# Altium integrated library Cypress Memory Asynchronous FIFO.IntLib: 158 symbols (part 1 of 4)
Pins are listed as number, name and electrical type; pins without a type are passive.

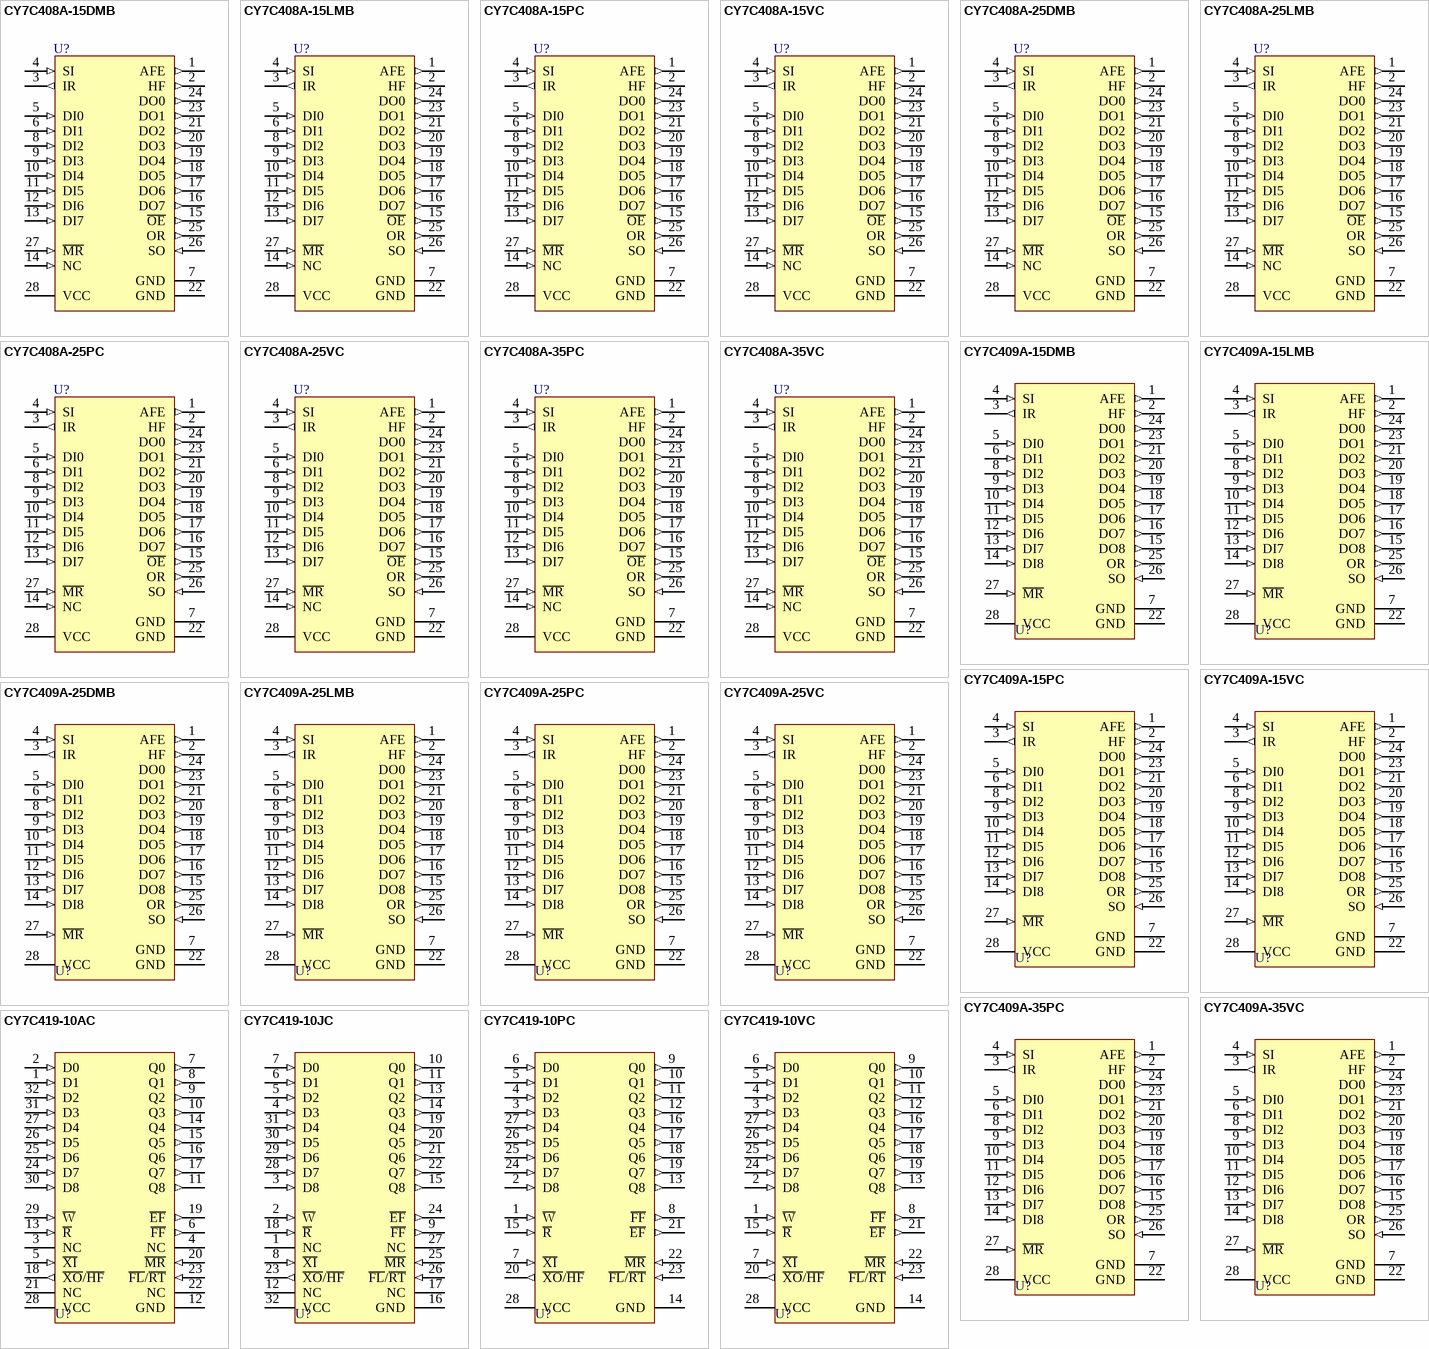
[diagram p0: symbols CY7C408A-15DMB to CY7C419-10VC]

## CY7C408A-15DMB
designator U?
64 x 8 Cascadable First-In First-Out; Published: 11-Dec-2002; LatestRevisionDate: 04-Mar-2005; LatestRevisionNote: Stylized 3D Model Added.; DatasheetVersion: Jul-1994; PackageVersion: Mar-1997; PackageReference: D22; Publisher: Altium Limited; PackageDescription: CerDIP; 28 Leads; Row Spacing 7.62 mm; Pitch 2.54 mm; ComponentLink1Description: Manufacturer Link; ComponentLink1URL: http://www.cypress.com/
footprint D22 (CerDIP; 28 Leads; Row Spacing 7.62 mm; Pitch 2.54 mm)
3D model D22 (CerDIP; 28 Leads; Row Spacing 7.62 mm; Pitch 2.54 mm)
pins: 1 AFE (out), 2 HF (out), 3 IR (out), 4 SI (in), 5 DI0 (in), 6 DI1 (in), 7 GND (power), 8 DI2 (in), 9 DI3 (in), 10 DI4 (in), 11 DI5 (in), 12 DI6 (in), 13 DI7 (in), 14 NC (in), 15 ~{OE} (out), 16 DO7 (out), 17 DO6 (out), 18 DO5 (out), 19 DO4 (out), 20 DO3 (out), 21 DO2 (out), 22 GND (power), 23 DO1 (out), 24 DO0 (out), 25 OR (out), 26 SO (in), 27 ~{MR} (in), 28 VCC (power)

## CY7C408A-15LMB
designator U?
64 x 8 Cascadable First-In First-Out; Published: 11-Dec-2002; DatasheetVersion: Jul-1994; PackageVersion: Apr-2001; PackageReference: L64; Publisher: Altium Limited; PackageDescription: Leadless Chip Carrier; 28 Terminals; Body 11.4 x 11.4 mm; ComponentLink1Description: Manufacturer Link; ComponentLink1URL: http://www.cypress.com/
footprint L64 (Leadless Chip Carrier; 28 Terminals; Body 11.4 x 11.4 mm)
pins: 1 AFE (out), 2 HF (out), 3 IR (out), 4 SI (in), 5 DI0 (in), 6 DI1 (in), 7 GND (power), 8 DI2 (in), 9 DI3 (in), 10 DI4 (in), 11 DI5 (in), 12 DI6 (in), 13 DI7 (in), 14 NC (in), 15 ~{OE} (out), 16 DO7 (out), 17 DO6 (out), 18 DO5 (out), 19 DO4 (out), 20 DO3 (out), 21 DO2 (out), 22 GND (power), 23 DO1 (out), 24 DO0 (out), 25 OR (out), 26 SO (in), 27 ~{MR} (in), 28 VCC (power)

## CY7C408A-15PC
designator U?
64 x 8 Cascadable First-In First-Out; Published: 11-Dec-2002; LatestRevisionDate: 04-Mar-2005; LatestRevisionNote: Stylized 3D Model Added.; DatasheetVersion: Jul-1994; PackageVersion: Jul-2000; PackageReference: P21; Publisher: Altium Limited; PackageDescription: DIP, Molded; 28 Leads; Row Spacing 7.62 mm; Pitch 2.54 mm; ComponentLink1Description: Manufacturer Link; ComponentLink1URL: http://www.cypress.com/
footprint P21 (DIP, Molded; 28 Leads; Row Spacing 7.62 mm; Pitch 2.54 mm)
3D model P21 (DIP, Molded; 28 Leads; Row Spacing 7.62 mm; Pitch 2.54 mm)
pins: 1 AFE (out), 2 HF (out), 3 IR (out), 4 SI (in), 5 DI0 (in), 6 DI1 (in), 7 GND (power), 8 DI2 (in), 9 DI3 (in), 10 DI4 (in), 11 DI5 (in), 12 DI6 (in), 13 DI7 (in), 14 NC (in), 15 ~{OE} (out), 16 DO7 (out), 17 DO6 (out), 18 DO5 (out), 19 DO4 (out), 20 DO3 (out), 21 DO2 (out), 22 GND (power), 23 DO1 (out), 24 DO0 (out), 25 OR (out), 26 SO (in), 27 ~{MR} (in), 28 VCC (power)

## CY7C408A-15VC
designator U?
64 x 8 Cascadable First-In First-Out; Published: 11-Dec-2002; LatestRevisionDate: 04-Mar-2005; LatestRevisionNote: Stylized 3D Model Added.; DatasheetVersion: Jul-1994; PackageVersion: Jul-1994; PackageReference: V21; Publisher: Altium Limited; PackageDescription: SOJ, Molded; 28 Leads; Body Width 7.5 mm; ComponentLink1Description: Manufacturer Link; ComponentLink1URL: http://www.cypress.com/
footprint V21 (SOJ, Molded; 28 Leads; Body Width 7.5 mm)
3D model V21 (SOJ, Molded; 28 Leads; Body Width 7.5 mm)
pins: 1 AFE (out), 2 HF (out), 3 IR (out), 4 SI (in), 5 DI0 (in), 6 DI1 (in), 7 GND (power), 8 DI2 (in), 9 DI3 (in), 10 DI4 (in), 11 DI5 (in), 12 DI6 (in), 13 DI7 (in), 14 NC (in), 15 ~{OE} (out), 16 DO7 (out), 17 DO6 (out), 18 DO5 (out), 19 DO4 (out), 20 DO3 (out), 21 DO2 (out), 22 GND (power), 23 DO1 (out), 24 DO0 (out), 25 OR (out), 26 SO (in), 27 ~{MR} (in), 28 VCC (power)

## CY7C408A-25DMB
designator U?
64 x 8 Cascadable First-In First-Out; Published: 11-Dec-2002; LatestRevisionDate: 04-Mar-2005; LatestRevisionNote: Stylized 3D Model Added.; DatasheetVersion: Jul-1994; PackageVersion: Mar-1997; PackageReference: D22; Publisher: Altium Limited; PackageDescription: CerDIP; 28 Leads; Row Spacing 7.62 mm; Pitch 2.54 mm; ComponentLink1Description: Manufacturer Link; ComponentLink1URL: http://www.cypress.com/
footprint D22 (CerDIP; 28 Leads; Row Spacing 7.62 mm; Pitch 2.54 mm)
3D model D22 (CerDIP; 28 Leads; Row Spacing 7.62 mm; Pitch 2.54 mm)
pins: 1 AFE (out), 2 HF (out), 3 IR (out), 4 SI (in), 5 DI0 (in), 6 DI1 (in), 7 GND (power), 8 DI2 (in), 9 DI3 (in), 10 DI4 (in), 11 DI5 (in), 12 DI6 (in), 13 DI7 (in), 14 NC (in), 15 ~{OE} (out), 16 DO7 (out), 17 DO6 (out), 18 DO5 (out), 19 DO4 (out), 20 DO3 (out), 21 DO2 (out), 22 GND (power), 23 DO1 (out), 24 DO0 (out), 25 OR (out), 26 SO (in), 27 ~{MR} (in), 28 VCC (power)

## CY7C408A-25LMB
designator U?
64 x 8 Cascadable First-In First-Out; Published: 11-Dec-2002; DatasheetVersion: Jul-1994; PackageVersion: Apr-2001; PackageReference: L64; Publisher: Altium Limited; PackageDescription: Leadless Chip Carrier; 28 Terminals; Body 11.4 x 11.4 mm; ComponentLink1Description: Manufacturer Link; ComponentLink1URL: http://www.cypress.com/
footprint L64 (Leadless Chip Carrier; 28 Terminals; Body 11.4 x 11.4 mm)
pins: 1 AFE (out), 2 HF (out), 3 IR (out), 4 SI (in), 5 DI0 (in), 6 DI1 (in), 7 GND (power), 8 DI2 (in), 9 DI3 (in), 10 DI4 (in), 11 DI5 (in), 12 DI6 (in), 13 DI7 (in), 14 NC (in), 15 ~{OE} (out), 16 DO7 (out), 17 DO6 (out), 18 DO5 (out), 19 DO4 (out), 20 DO3 (out), 21 DO2 (out), 22 GND (power), 23 DO1 (out), 24 DO0 (out), 25 OR (out), 26 SO (in), 27 ~{MR} (in), 28 VCC (power)

## CY7C408A-25PC
designator U?
64 x 8 Cascadable First-In First-Out; Published: 11-Dec-2002; LatestRevisionDate: 04-Mar-2005; LatestRevisionNote: Stylized 3D Model Added.; DatasheetVersion: Jul-1994; PackageVersion: Jul-2000; PackageReference: P21; Publisher: Altium Limited; PackageDescription: DIP, Molded; 28 Leads; Row Spacing 7.62 mm; Pitch 2.54 mm; ComponentLink1Description: Manufacturer Link; ComponentLink1URL: http://www.cypress.com/
footprint P21 (DIP, Molded; 28 Leads; Row Spacing 7.62 mm; Pitch 2.54 mm)
3D model P21 (DIP, Molded; 28 Leads; Row Spacing 7.62 mm; Pitch 2.54 mm)
pins: 1 AFE (out), 2 HF (out), 3 IR (out), 4 SI (in), 5 DI0 (in), 6 DI1 (in), 7 GND (power), 8 DI2 (in), 9 DI3 (in), 10 DI4 (in), 11 DI5 (in), 12 DI6 (in), 13 DI7 (in), 14 NC (in), 15 ~{OE} (out), 16 DO7 (out), 17 DO6 (out), 18 DO5 (out), 19 DO4 (out), 20 DO3 (out), 21 DO2 (out), 22 GND (power), 23 DO1 (out), 24 DO0 (out), 25 OR (out), 26 SO (in), 27 ~{MR} (in), 28 VCC (power)

## CY7C408A-25VC
designator U?
64 x 8 Cascadable First-In First-Out; Published: 11-Dec-2002; LatestRevisionDate: 04-Mar-2005; LatestRevisionNote: Stylized 3D Model Added.; DatasheetVersion: Jul-1994; PackageVersion: Jul-1994; PackageReference: V21; Publisher: Altium Limited; PackageDescription: SOJ, Molded; 28 Leads; Body Width 7.5 mm; ComponentLink1Description: Manufacturer Link; ComponentLink1URL: http://www.cypress.com/
footprint V21 (SOJ, Molded; 28 Leads; Body Width 7.5 mm)
3D model V21 (SOJ, Molded; 28 Leads; Body Width 7.5 mm)
pins: 1 AFE (out), 2 HF (out), 3 IR (out), 4 SI (in), 5 DI0 (in), 6 DI1 (in), 7 GND (power), 8 DI2 (in), 9 DI3 (in), 10 DI4 (in), 11 DI5 (in), 12 DI6 (in), 13 DI7 (in), 14 NC (in), 15 ~{OE} (out), 16 DO7 (out), 17 DO6 (out), 18 DO5 (out), 19 DO4 (out), 20 DO3 (out), 21 DO2 (out), 22 GND (power), 23 DO1 (out), 24 DO0 (out), 25 OR (out), 26 SO (in), 27 ~{MR} (in), 28 VCC (power)

## CY7C408A-35PC
designator U?
64 x 8 Cascadable First-In First-Out; Published: 11-Dec-2002; LatestRevisionDate: 04-Mar-2005; LatestRevisionNote: Stylized 3D Model Added.; DatasheetVersion: Jul-1994; PackageVersion: Jul-2000; PackageReference: P21; Publisher: Altium Limited; PackageDescription: DIP, Molded; 28 Leads; Row Spacing 7.62 mm; Pitch 2.54 mm; ComponentLink1Description: Manufacturer Link; ComponentLink1URL: http://www.cypress.com/
footprint P21 (DIP, Molded; 28 Leads; Row Spacing 7.62 mm; Pitch 2.54 mm)
3D model P21 (DIP, Molded; 28 Leads; Row Spacing 7.62 mm; Pitch 2.54 mm)
pins: 1 AFE (out), 2 HF (out), 3 IR (out), 4 SI (in), 5 DI0 (in), 6 DI1 (in), 7 GND (power), 8 DI2 (in), 9 DI3 (in), 10 DI4 (in), 11 DI5 (in), 12 DI6 (in), 13 DI7 (in), 14 NC (in), 15 ~{OE} (out), 16 DO7 (out), 17 DO6 (out), 18 DO5 (out), 19 DO4 (out), 20 DO3 (out), 21 DO2 (out), 22 GND (power), 23 DO1 (out), 24 DO0 (out), 25 OR (out), 26 SO (in), 27 ~{MR} (in), 28 VCC (power)

## CY7C408A-35VC
designator U?
64 x 8 Cascadable First-In First-Out; Published: 11-Dec-2002; LatestRevisionDate: 04-Mar-2005; LatestRevisionNote: Stylized 3D Model Added.; DatasheetVersion: Jul-1994; PackageVersion: Jul-1994; PackageReference: V21; Publisher: Altium Limited; PackageDescription: SOJ, Molded; 28 Leads; Body Width 7.5 mm; ComponentLink1Description: Manufacturer Link; ComponentLink1URL: http://www.cypress.com/
footprint V21 (SOJ, Molded; 28 Leads; Body Width 7.5 mm)
3D model V21 (SOJ, Molded; 28 Leads; Body Width 7.5 mm)
pins: 1 AFE (out), 2 HF (out), 3 IR (out), 4 SI (in), 5 DI0 (in), 6 DI1 (in), 7 GND (power), 8 DI2 (in), 9 DI3 (in), 10 DI4 (in), 11 DI5 (in), 12 DI6 (in), 13 DI7 (in), 14 NC (in), 15 ~{OE} (out), 16 DO7 (out), 17 DO6 (out), 18 DO5 (out), 19 DO4 (out), 20 DO3 (out), 21 DO2 (out), 22 GND (power), 23 DO1 (out), 24 DO0 (out), 25 OR (out), 26 SO (in), 27 ~{MR} (in), 28 VCC (power)

## CY7C409A-15DMB
designator U?
64 x 9 Cascadable First-In First-Out; Published: 11-Dec-2002; LatestRevisionDate: 04-Mar-2005; LatestRevisionNote: Stylized 3D Model Added.; DatasheetVersion: Jul-1994; PackageVersion: Mar-1997; PackageReference: D22; Publisher: Altium Limited; PackageDescription: CerDIP; 28 Leads; Row Spacing 7.62 mm; Pitch 2.54 mm; ComponentLink1Description: Manufacturer Link; ComponentLink1URL: http://www.cypress.com/
footprint D22 (CerDIP; 28 Leads; Row Spacing 7.62 mm; Pitch 2.54 mm)
3D model D22 (CerDIP; 28 Leads; Row Spacing 7.62 mm; Pitch 2.54 mm)
pins: 1 AFE (out), 2 HF (out), 3 IR (out), 4 SI (in), 5 DI0 (in), 6 DI1 (in), 7 GND (power), 8 DI2 (in), 9 DI3 (in), 10 DI4 (in), 11 DI5 (in), 12 DI6 (in), 13 DI7 (in), 14 DI8 (in), 15 DO8 (out), 16 DO7 (out), 17 DO6 (out), 18 DO5 (out), 19 DO4 (out), 20 DO3 (out), 21 DO2 (out), 22 GND (power), 23 DO1 (out), 24 DO0 (out), 25 OR (out), 26 SO (in), 27 ~{MR} (in), 28 VCC (power)

## CY7C409A-15LMB
designator U?
64 x 9 Cascadable First-In First-Out; Published: 11-Dec-2002; DatasheetVersion: Jul-1994; PackageVersion: Apr-2001; PackageReference: L64; Publisher: Altium Limited; PackageDescription: Leadless Chip Carrier; 28 Terminals; Body 11.4 x 11.4 mm; ComponentLink1Description: Manufacturer Link; ComponentLink1URL: http://www.cypress.com/
footprint L64 (Leadless Chip Carrier; 28 Terminals; Body 11.4 x 11.4 mm)
pins: 1 AFE (out), 2 HF (out), 3 IR (out), 4 SI (in), 5 DI0 (in), 6 DI1 (in), 7 GND (power), 8 DI2 (in), 9 DI3 (in), 10 DI4 (in), 11 DI5 (in), 12 DI6 (in), 13 DI7 (in), 14 DI8 (in), 15 DO8 (out), 16 DO7 (out), 17 DO6 (out), 18 DO5 (out), 19 DO4 (out), 20 DO3 (out), 21 DO2 (out), 22 GND (power), 23 DO1 (out), 24 DO0 (out), 25 OR (out), 26 SO (in), 27 ~{MR} (in), 28 VCC (power)

## CY7C409A-15PC
designator U?
64 x 9 Cascadable First-In First-Out; Published: 11-Dec-2002; LatestRevisionDate: 04-Mar-2005; LatestRevisionNote: Stylized 3D Model Added.; DatasheetVersion: Jul-1994; PackageVersion: Jul-2000; PackageReference: P21; Publisher: Altium Limited; PackageDescription: DIP, Molded; 28 Leads; Row Spacing 7.62 mm; Pitch 2.54 mm; ComponentLink1Description: Manufacturer Link; ComponentLink1URL: http://www.cypress.com/
footprint P21 (DIP, Molded; 28 Leads; Row Spacing 7.62 mm; Pitch 2.54 mm)
3D model P21 (DIP, Molded; 28 Leads; Row Spacing 7.62 mm; Pitch 2.54 mm)
pins: 1 AFE (out), 2 HF (out), 3 IR (out), 4 SI (in), 5 DI0 (in), 6 DI1 (in), 7 GND (power), 8 DI2 (in), 9 DI3 (in), 10 DI4 (in), 11 DI5 (in), 12 DI6 (in), 13 DI7 (in), 14 DI8 (in), 15 DO8 (out), 16 DO7 (out), 17 DO6 (out), 18 DO5 (out), 19 DO4 (out), 20 DO3 (out), 21 DO2 (out), 22 GND (power), 23 DO1 (out), 24 DO0 (out), 25 OR (out), 26 SO (in), 27 ~{MR} (in), 28 VCC (power)

## CY7C409A-15VC
designator U?
64 x 9 Cascadable First-In First-Out; Published: 11-Dec-2002; LatestRevisionDate: 04-Mar-2005; LatestRevisionNote: Stylized 3D Model Added.; DatasheetVersion: Jul-1994; PackageVersion: Jul-1994; PackageReference: V21; Publisher: Altium Limited; PackageDescription: SOJ, Molded; 28 Leads; Body Width 7.5 mm; ComponentLink1Description: Manufacturer Link; ComponentLink1URL: http://www.cypress.com/
footprint V21 (SOJ, Molded; 28 Leads; Body Width 7.5 mm)
3D model V21 (SOJ, Molded; 28 Leads; Body Width 7.5 mm)
pins: 1 AFE (out), 2 HF (out), 3 IR (out), 4 SI (in), 5 DI0 (in), 6 DI1 (in), 7 GND (power), 8 DI2 (in), 9 DI3 (in), 10 DI4 (in), 11 DI5 (in), 12 DI6 (in), 13 DI7 (in), 14 DI8 (in), 15 DO8 (out), 16 DO7 (out), 17 DO6 (out), 18 DO5 (out), 19 DO4 (out), 20 DO3 (out), 21 DO2 (out), 22 GND (power), 23 DO1 (out), 24 DO0 (out), 25 OR (out), 26 SO (in), 27 ~{MR} (in), 28 VCC (power)

## CY7C409A-25DMB
designator U?
64 x 9 Cascadable First-In First-Out; Published: 11-Dec-2002; LatestRevisionDate: 04-Mar-2005; LatestRevisionNote: Stylized 3D Model Added.; DatasheetVersion: Jul-1994; PackageVersion: Mar-1997; PackageReference: D22; Publisher: Altium Limited; PackageDescription: CerDIP; 28 Leads; Row Spacing 7.62 mm; Pitch 2.54 mm; ComponentLink1Description: Manufacturer Link; ComponentLink1URL: http://www.cypress.com/
footprint D22 (CerDIP; 28 Leads; Row Spacing 7.62 mm; Pitch 2.54 mm)
3D model D22 (CerDIP; 28 Leads; Row Spacing 7.62 mm; Pitch 2.54 mm)
pins: 1 AFE (out), 2 HF (out), 3 IR (out), 4 SI (in), 5 DI0 (in), 6 DI1 (in), 7 GND (power), 8 DI2 (in), 9 DI3 (in), 10 DI4 (in), 11 DI5 (in), 12 DI6 (in), 13 DI7 (in), 14 DI8 (in), 15 DO8 (out), 16 DO7 (out), 17 DO6 (out), 18 DO5 (out), 19 DO4 (out), 20 DO3 (out), 21 DO2 (out), 22 GND (power), 23 DO1 (out), 24 DO0 (out), 25 OR (out), 26 SO (in), 27 ~{MR} (in), 28 VCC (power)

## CY7C409A-25LMB
designator U?
64 x 9 Cascadable First-In First-Out; Published: 11-Dec-2002; DatasheetVersion: Jul-1994; PackageVersion: Apr-2001; PackageReference: L64; Publisher: Altium Limited; PackageDescription: Leadless Chip Carrier; 28 Terminals; Body 11.4 x 11.4 mm; ComponentLink1Description: Manufacturer Link; ComponentLink1URL: http://www.cypress.com/
footprint L64 (Leadless Chip Carrier; 28 Terminals; Body 11.4 x 11.4 mm)
pins: 1 AFE (out), 2 HF (out), 3 IR (out), 4 SI (in), 5 DI0 (in), 6 DI1 (in), 7 GND (power), 8 DI2 (in), 9 DI3 (in), 10 DI4 (in), 11 DI5 (in), 12 DI6 (in), 13 DI7 (in), 14 DI8 (in), 15 DO8 (out), 16 DO7 (out), 17 DO6 (out), 18 DO5 (out), 19 DO4 (out), 20 DO3 (out), 21 DO2 (out), 22 GND (power), 23 DO1 (out), 24 DO0 (out), 25 OR (out), 26 SO (in), 27 ~{MR} (in), 28 VCC (power)

## CY7C409A-25PC
designator U?
64 x 9 Cascadable First-In First-Out; Published: 11-Dec-2002; LatestRevisionDate: 04-Mar-2005; LatestRevisionNote: Stylized 3D Model Added.; DatasheetVersion: Jul-1994; PackageVersion: Jul-2000; PackageReference: P21; Publisher: Altium Limited; PackageDescription: DIP, Molded; 28 Leads; Row Spacing 7.62 mm; Pitch 2.54 mm; ComponentLink1Description: Manufacturer Link; ComponentLink1URL: http://www.cypress.com/
footprint P21 (DIP, Molded; 28 Leads; Row Spacing 7.62 mm; Pitch 2.54 mm)
3D model P21 (DIP, Molded; 28 Leads; Row Spacing 7.62 mm; Pitch 2.54 mm)
pins: 1 AFE (out), 2 HF (out), 3 IR (out), 4 SI (in), 5 DI0 (in), 6 DI1 (in), 7 GND (power), 8 DI2 (in), 9 DI3 (in), 10 DI4 (in), 11 DI5 (in), 12 DI6 (in), 13 DI7 (in), 14 DI8 (in), 15 DO8 (out), 16 DO7 (out), 17 DO6 (out), 18 DO5 (out), 19 DO4 (out), 20 DO3 (out), 21 DO2 (out), 22 GND (power), 23 DO1 (out), 24 DO0 (out), 25 OR (out), 26 SO (in), 27 ~{MR} (in), 28 VCC (power)

## CY7C409A-25VC
designator U?
64 x 9 Cascadable First-In First-Out; Published: 11-Dec-2002; LatestRevisionDate: 04-Mar-2005; LatestRevisionNote: Stylized 3D Model Added.; DatasheetVersion: Jul-1994; PackageVersion: Jul-1994; PackageReference: V21; Publisher: Altium Limited; PackageDescription: SOJ, Molded; 28 Leads; Body Width 7.5 mm; ComponentLink1Description: Manufacturer Link; ComponentLink1URL: http://www.cypress.com/
footprint V21 (SOJ, Molded; 28 Leads; Body Width 7.5 mm)
3D model V21 (SOJ, Molded; 28 Leads; Body Width 7.5 mm)
pins: 1 AFE (out), 2 HF (out), 3 IR (out), 4 SI (in), 5 DI0 (in), 6 DI1 (in), 7 GND (power), 8 DI2 (in), 9 DI3 (in), 10 DI4 (in), 11 DI5 (in), 12 DI6 (in), 13 DI7 (in), 14 DI8 (in), 15 DO8 (out), 16 DO7 (out), 17 DO6 (out), 18 DO5 (out), 19 DO4 (out), 20 DO3 (out), 21 DO2 (out), 22 GND (power), 23 DO1 (out), 24 DO0 (out), 25 OR (out), 26 SO (in), 27 ~{MR} (in), 28 VCC (power)

## CY7C409A-35PC
designator U?
64 x 9 Cascadable First-In First-Out; Published: 11-Dec-2002; LatestRevisionDate: 04-Mar-2005; LatestRevisionNote: Stylized 3D Model Added.; DatasheetVersion: Jul-1994; PackageVersion: Jul-2000; PackageReference: P21; Publisher: Altium Limited; PackageDescription: DIP, Molded; 28 Leads; Row Spacing 7.62 mm; Pitch 2.54 mm; ComponentLink1Description: Manufacturer Link; ComponentLink1URL: http://www.cypress.com/
footprint P21 (DIP, Molded; 28 Leads; Row Spacing 7.62 mm; Pitch 2.54 mm)
3D model P21 (DIP, Molded; 28 Leads; Row Spacing 7.62 mm; Pitch 2.54 mm)
pins: 1 AFE (out), 2 HF (out), 3 IR (out), 4 SI (in), 5 DI0 (in), 6 DI1 (in), 7 GND (power), 8 DI2 (in), 9 DI3 (in), 10 DI4 (in), 11 DI5 (in), 12 DI6 (in), 13 DI7 (in), 14 DI8 (in), 15 DO8 (out), 16 DO7 (out), 17 DO6 (out), 18 DO5 (out), 19 DO4 (out), 20 DO3 (out), 21 DO2 (out), 22 GND (power), 23 DO1 (out), 24 DO0 (out), 25 OR (out), 26 SO (in), 27 ~{MR} (in), 28 VCC (power)

## CY7C409A-35VC
designator U?
64 x 9 Cascadable First-In First-Out; Published: 11-Dec-2002; LatestRevisionDate: 04-Mar-2005; LatestRevisionNote: Stylized 3D Model Added.; DatasheetVersion: Jul-1994; PackageVersion: Jul-1994; PackageReference: V21; Publisher: Altium Limited; PackageDescription: SOJ, Molded; 28 Leads; Body Width 7.5 mm; ComponentLink1Description: Manufacturer Link; ComponentLink1URL: http://www.cypress.com/
footprint V21 (SOJ, Molded; 28 Leads; Body Width 7.5 mm)
3D model V21 (SOJ, Molded; 28 Leads; Body Width 7.5 mm)
pins: 1 AFE (out), 2 HF (out), 3 IR (out), 4 SI (in), 5 DI0 (in), 6 DI1 (in), 7 GND (power), 8 DI2 (in), 9 DI3 (in), 10 DI4 (in), 11 DI5 (in), 12 DI6 (in), 13 DI7 (in), 14 DI8 (in), 15 DO8 (out), 16 DO7 (out), 17 DO6 (out), 18 DO5 (out), 19 DO4 (out), 20 DO3 (out), 21 DO2 (out), 22 GND (power), 23 DO1 (out), 24 DO0 (out), 25 OR (out), 26 SO (in), 27 ~{MR} (in), 28 VCC (power)

## CY7C419-10AC
designator U?
256 x 9 Asynchronous First-In First-Out; Published: 11-Dec-2002; LatestRevisionDate: 13-Apr-2006; LatestRevisionNote: IPC-7351 Footprint Added.; DatasheetVersion: 4-Nov-1997; PackageVersion: Nov-1997; PackageReference: A32; Publisher: Altium Limited; PackageDescription: 32-Pin Thin Plastic Quad Flat Pack 0.8 mm Pitch; ComponentLink1Description: Manufacturer Link; ComponentLink1URL: http://www.cypress.com/; ComponentLink2Description: Datasheet; ComponentLink2URL: http://www.cypress.com/portal/server.pt/gateway/PTARGS_0_2_1524_209_259_43/http%3B/sjapp20.mis.cypress.com%3B7001/publishedcontent/publish/design_resources/datasheets/contents/cy7c419_5.pdf
footprint A32_N (Thin QFP, 32-Leads, Body 7x7mm, Pitch 0.8mm, IPC Medium Density)
footprint A32_L (Thin QFP, 32-Leads, Body 7x7mm, Pitch 0.8mm, IPC High Density)
footprint A32_M (Thin QFP, 32-Leads, Body 7x7mm, Pitch 0.8mm, IPC Low Density)
3D model CY7C419-A32 (32-Pin Thin Plastic Quad Flat Pack 0.8 mm Pitch)
pins: 1 D1 (in), 2 D0 (in), 3 NC, 4 NC, 5 ~{XI} (in), 6 ~{FF} (out), 7 Q0 (out), 8 Q1 (out), 9 Q2 (out), 10 Q3 (out), 11 Q8 (out), 12 GND (power), 13 ~{R} (in), 14 Q4 (out), 15 Q5 (out), 16 Q6 (out), 17 Q7 (out), 18 ~{XO}/~{HF} (out), 19 ~{EF} (out), 20 ~{MR} (in), 21 NC, 22 NC, 23 ~{FL}/~{RT} (in), 24 D7 (in), 25 D6 (in), 26 D5 (in), 27 D4 (in), 28 VCC (power), 29 ~{W} (in), 30 D8 (in), 31 D3 (in), 32 D2 (in)

## CY7C419-10JC
designator U?
256 x 9 Asynchronous First-In First-Out; Published: 11-Dec-2002; LatestRevisionDate: 04-Mar-2005; LatestRevisionNote: Stylized 3D Model Added.; DatasheetVersion: 4-Nov-1997; PackageVersion: Nov-1997; PackageReference: J65; Publisher: Altium Limited; PackageDescription: PLCC; 32 Leads; Body 11.4 x 14 mm; Pitch 1.27 mm; Code_JEDEC: MS-016-AE; Code_IPC: PLCC/R-32; ComponentLink1Description: Manufacturer Link; ComponentLink1URL: http://www.cypress.com/; ComponentLink2Description: Datasheet; ComponentLink2URL: http://www.cypress.com/portal/server.pt/gateway/PTARGS_0_2_1524_209_259_43/http%3B/sjapp20.mis.cypress.com%3B7001/publishedcontent/publish/design_resources/datasheets/contents/cy7c419_5.pdf
footprint J65 (PLCC; 32 Leads; Body 11.4 x 14 mm; Pitch 1.27 mm)
3D model CY7C419-J65 (PLCC; 32 Leads; Body 11.4 x 14 mm; Pitch 1.27 mm)
pins: 1 NC, 2 ~{W} (in), 3 D8 (in), 4 D3 (in), 5 D2 (in), 6 D1 (in), 7 D0 (in), 8 ~{XI} (in), 9 ~{FF} (out), 10 Q0 (out), 11 Q1 (out), 12 NC, 13 Q2 (out), 14 Q3 (out), 15 Q8 (out), 16 GND (power), 17 NC, 18 ~{R} (in), 19 Q4 (out), 20 Q5 (out), 21 Q6 (out), 22 Q7 (out), 23 ~{XO}/~{HF} (out), 24 ~{EF} (out), 25 ~{MR} (in), 26 ~{FL}/~{RT} (in), 27 NC, 28 D7 (in), 29 D6 (in), 30 D5 (in), 31 D4 (in), 32 VCC (power)

## CY7C419-10PC
designator U?
256 x 9 Asynchronous First-In First-Out; Published: 11-Dec-2002; LatestRevisionDate: 04-Mar-2005; LatestRevisionNote: Stylized 3D Model Added.; DatasheetVersion: 4-Nov-1997; PackageVersion: Jul-2000; PackageReference: P21; Publisher: Altium Limited; PackageDescription: DIP, Molded; 28 Leads; Row Spacing 7.62 mm; Pitch 2.54 mm; ComponentLink1Description: Manufacturer Link; ComponentLink1URL: http://www.cypress.com/; ComponentLink2Description: Datasheet; ComponentLink2URL: http://www.cypress.com/portal/server.pt/gateway/PTARGS_0_2_1524_209_259_43/http%3B/sjapp20.mis.cypress.com%3B7001/publishedcontent/publish/design_resources/datasheets/contents/cy7c419_5.pdf
footprint P21 (DIP, Molded; 28 Leads; Row Spacing 7.62 mm; Pitch 2.54 mm)
3D model P21 (DIP, Molded; 28 Leads; Row Spacing 7.62 mm; Pitch 2.54 mm)
pins: 1 ~{W} (in), 2 D8 (in), 3 D3 (in), 4 D2 (in), 5 D1 (in), 6 D0 (in), 7 ~{XI} (in), 8 ~{FF} (out), 9 Q0 (out), 10 Q1 (out), 11 Q2 (out), 12 Q3 (out), 13 Q8 (out), 14 GND (power), 15 ~{R} (in), 16 Q4 (out), 17 Q5 (out), 18 Q6 (out), 19 Q7 (out), 20 ~{XO}/~{HF} (out), 21 ~{EF} (out), 22 ~{MR} (in), 23 ~{FL}/~{RT} (in), 24 D7 (in), 25 D6 (in), 26 D5 (in), 27 D4 (in), 28 VCC (power)

## CY7C419-10VC
designator U?
256 x 9 Asynchronous First-In First-Out; Published: 11-Dec-2002; LatestRevisionDate: 04-Mar-2005; LatestRevisionNote: Stylized 3D Model Added.; DatasheetVersion: 4-Nov-1997; PackageVersion: Jul-1994; PackageReference: V21; Publisher: Altium Limited; PackageDescription: SOJ, Molded; 28 Leads; Body Width 7.5 mm; ComponentLink1Description: Manufacturer Link; ComponentLink1URL: http://www.cypress.com/; ComponentLink2Description: Datasheet; ComponentLink2URL: http://www.cypress.com/portal/server.pt/gateway/PTARGS_0_2_1524_209_259_43/http%3B/sjapp20.mis.cypress.com%3B7001/publishedcontent/publish/design_resources/datasheets/contents/cy7c419_5.pdf
footprint V21 (SOJ, Molded; 28 Leads; Body Width 7.5 mm)
3D model V21 (SOJ, Molded; 28 Leads; Body Width 7.5 mm)
pins: 1 ~{W} (in), 2 D8 (in), 3 D3 (in), 4 D2 (in), 5 D1 (in), 6 D0 (in), 7 ~{XI} (in), 8 ~{FF} (out), 9 Q0 (out), 10 Q1 (out), 11 Q2 (out), 12 Q3 (out), 13 Q8 (out), 14 GND (power), 15 ~{R} (in), 16 Q4 (out), 17 Q5 (out), 18 Q6 (out), 19 Q7 (out), 20 ~{XO}/~{HF} (out), 21 ~{EF} (out), 22 ~{MR} (in), 23 ~{FL}/~{RT} (in), 24 D7 (in), 25 D6 (in), 26 D5 (in), 27 D4 (in), 28 VCC (power)

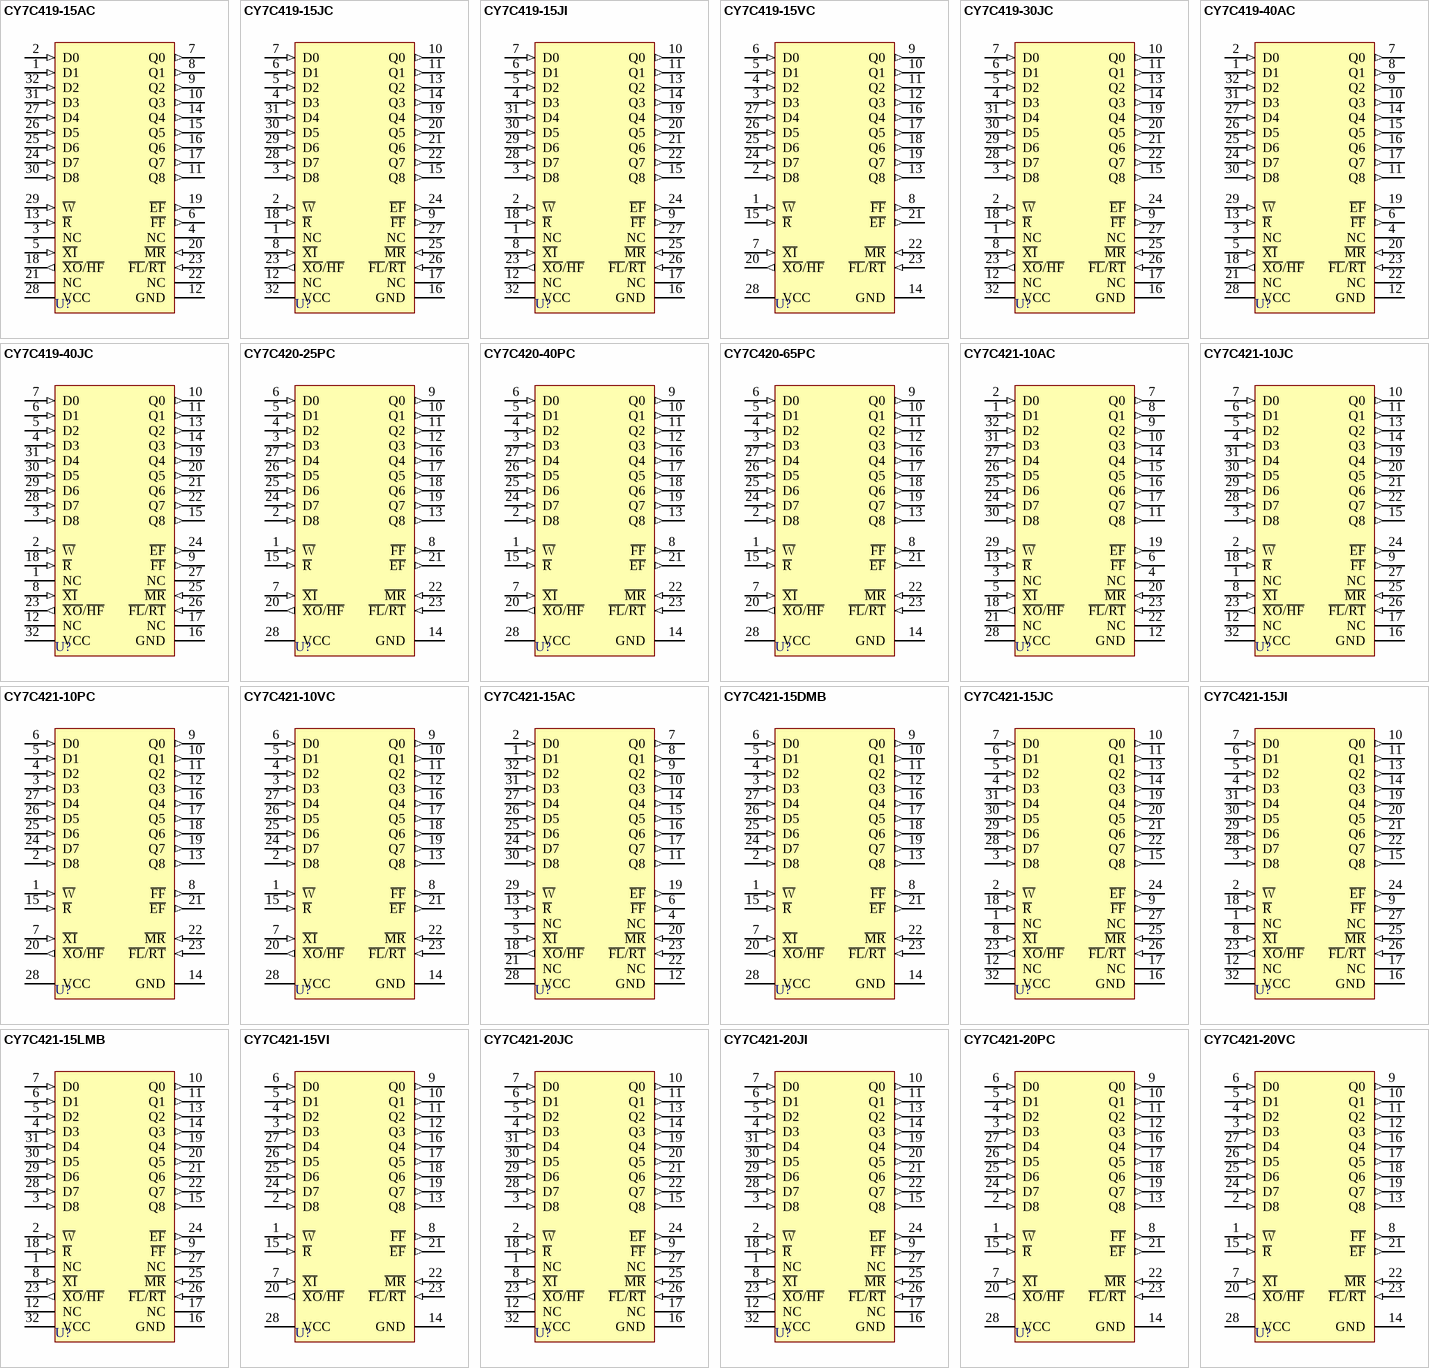
[diagram p1: symbols CY7C419-15AC to CY7C421-20VC]

## CY7C419-15AC
designator U?
256 x 9 Asynchronous First-In First-Out; Published: 11-Dec-2002; LatestRevisionDate: 13-Apr-2006; LatestRevisionNote: IPC-7351 Footprint Added.; DatasheetVersion: 4-Nov-1997; PackageVersion: Nov-1997; PackageReference: A32; Publisher: Altium Limited; PackageDescription: 32-Pin Thin Plastic Quad Flat Pack 0.8 mm Pitch; ComponentLink1Description: Manufacturer Link; ComponentLink1URL: http://www.cypress.com/; ComponentLink2Description: Datasheet; ComponentLink2URL: http://www.cypress.com/portal/server.pt/gateway/PTARGS_0_2_1524_209_259_43/http%3B/sjapp20.mis.cypress.com%3B7001/publishedcontent/publish/design_resources/datasheets/contents/cy7c419_5.pdf
footprint A32_N (Thin QFP, 32-Leads, Body 7x7mm, Pitch 0.8mm, IPC Medium Density)
footprint A32_L (Thin QFP, 32-Leads, Body 7x7mm, Pitch 0.8mm, IPC High Density)
footprint A32_M (Thin QFP, 32-Leads, Body 7x7mm, Pitch 0.8mm, IPC Low Density)
3D model CY7C419-A32 (32-Pin Thin Plastic Quad Flat Pack 0.8 mm Pitch)
pins: 1 D1 (in), 2 D0 (in), 3 NC, 4 NC, 5 ~{XI} (in), 6 ~{FF} (out), 7 Q0 (out), 8 Q1 (out), 9 Q2 (out), 10 Q3 (out), 11 Q8 (out), 12 GND (power), 13 ~{R} (in), 14 Q4 (out), 15 Q5 (out), 16 Q6 (out), 17 Q7 (out), 18 ~{XO}/~{HF} (out), 19 ~{EF} (out), 20 ~{MR} (in), 21 NC, 22 NC, 23 ~{FL}/~{RT} (in), 24 D7 (in), 25 D6 (in), 26 D5 (in), 27 D4 (in), 28 VCC (power), 29 ~{W} (in), 30 D8 (in), 31 D3 (in), 32 D2 (in)

## CY7C419-15JC
designator U?
256 x 9 Asynchronous First-In First-Out; Published: 11-Dec-2002; LatestRevisionDate: 04-Mar-2005; LatestRevisionNote: Stylized 3D Model Added.; DatasheetVersion: 4-Nov-1997; PackageVersion: Nov-1997; PackageReference: J65; Publisher: Altium Limited; PackageDescription: PLCC; 32 Leads; Body 11.4 x 14 mm; Pitch 1.27 mm; Code_JEDEC: MS-016-AE; Code_IPC: PLCC/R-32; ComponentLink1Description: Manufacturer Link; ComponentLink1URL: http://www.cypress.com/; ComponentLink2Description: Datasheet; ComponentLink2URL: http://www.cypress.com/portal/server.pt/gateway/PTARGS_0_2_1524_209_259_43/http%3B/sjapp20.mis.cypress.com%3B7001/publishedcontent/publish/design_resources/datasheets/contents/cy7c419_5.pdf
footprint J65 (PLCC; 32 Leads; Body 11.4 x 14 mm; Pitch 1.27 mm)
3D model CY7C419-J65 (PLCC; 32 Leads; Body 11.4 x 14 mm; Pitch 1.27 mm)
pins: 1 NC, 2 ~{W} (in), 3 D8 (in), 4 D3 (in), 5 D2 (in), 6 D1 (in), 7 D0 (in), 8 ~{XI} (in), 9 ~{FF} (out), 10 Q0 (out), 11 Q1 (out), 12 NC, 13 Q2 (out), 14 Q3 (out), 15 Q8 (out), 16 GND (power), 17 NC, 18 ~{R} (in), 19 Q4 (out), 20 Q5 (out), 21 Q6 (out), 22 Q7 (out), 23 ~{XO}/~{HF} (out), 24 ~{EF} (out), 25 ~{MR} (in), 26 ~{FL}/~{RT} (in), 27 NC, 28 D7 (in), 29 D6 (in), 30 D5 (in), 31 D4 (in), 32 VCC (power)

## CY7C419-15JI
designator U?
256 x 9 Asynchronous First-In First-Out; Published: 11-Dec-2002; LatestRevisionDate: 04-Mar-2005; LatestRevisionNote: Stylized 3D Model Added.; DatasheetVersion: 4-Nov-1997; PackageVersion: Nov-1997; PackageReference: J65; Publisher: Altium Limited; PackageDescription: PLCC; 32 Leads; Body 11.4 x 14 mm; Pitch 1.27 mm; Code_JEDEC: MS-016-AE; Code_IPC: PLCC/R-32; ComponentLink1Description: Manufacturer Link; ComponentLink1URL: http://www.cypress.com/; ComponentLink2Description: Datasheet; ComponentLink2URL: http://www.cypress.com/portal/server.pt/gateway/PTARGS_0_2_1524_209_259_43/http%3B/sjapp20.mis.cypress.com%3B7001/publishedcontent/publish/design_resources/datasheets/contents/cy7c419_5.pdf
footprint J65 (PLCC; 32 Leads; Body 11.4 x 14 mm; Pitch 1.27 mm)
3D model CY7C419-J65 (PLCC; 32 Leads; Body 11.4 x 14 mm; Pitch 1.27 mm)
pins: 1 NC, 2 ~{W} (in), 3 D8 (in), 4 D3 (in), 5 D2 (in), 6 D1 (in), 7 D0 (in), 8 ~{XI} (in), 9 ~{FF} (out), 10 Q0 (out), 11 Q1 (out), 12 NC, 13 Q2 (out), 14 Q3 (out), 15 Q8 (out), 16 GND (power), 17 NC, 18 ~{R} (in), 19 Q4 (out), 20 Q5 (out), 21 Q6 (out), 22 Q7 (out), 23 ~{XO}/~{HF} (out), 24 ~{EF} (out), 25 ~{MR} (in), 26 ~{FL}/~{RT} (in), 27 NC, 28 D7 (in), 29 D6 (in), 30 D5 (in), 31 D4 (in), 32 VCC (power)

## CY7C419-15VC
designator U?
256 x 9 Asynchronous First-In First-Out; Published: 11-Dec-2002; LatestRevisionDate: 04-Mar-2005; LatestRevisionNote: Stylized 3D Model Added.; DatasheetVersion: 4-Nov-1997; PackageVersion: Jul-1994; PackageReference: V21; Publisher: Altium Limited; PackageDescription: SOJ, Molded; 28 Leads; Body Width 7.5 mm; ComponentLink1Description: Manufacturer Link; ComponentLink1URL: http://www.cypress.com/; ComponentLink2Description: Datasheet; ComponentLink2URL: http://www.cypress.com/portal/server.pt/gateway/PTARGS_0_2_1524_209_259_43/http%3B/sjapp20.mis.cypress.com%3B7001/publishedcontent/publish/design_resources/datasheets/contents/cy7c419_5.pdf
footprint V21 (SOJ, Molded; 28 Leads; Body Width 7.5 mm)
3D model V21 (SOJ, Molded; 28 Leads; Body Width 7.5 mm)
pins: 1 ~{W} (in), 2 D8 (in), 3 D3 (in), 4 D2 (in), 5 D1 (in), 6 D0 (in), 7 ~{XI} (in), 8 ~{FF} (out), 9 Q0 (out), 10 Q1 (out), 11 Q2 (out), 12 Q3 (out), 13 Q8 (out), 14 GND (power), 15 ~{R} (in), 16 Q4 (out), 17 Q5 (out), 18 Q6 (out), 19 Q7 (out), 20 ~{XO}/~{HF} (out), 21 ~{EF} (out), 22 ~{MR} (in), 23 ~{FL}/~{RT} (in), 24 D7 (in), 25 D6 (in), 26 D5 (in), 27 D4 (in), 28 VCC (power)

## CY7C419-30JC
designator U?
256 x 9 Asynchronous First-In First-Out; Published: 11-Dec-2002; LatestRevisionDate: 04-Mar-2005; LatestRevisionNote: Stylized 3D Model Added.; DatasheetVersion: 4-Nov-1997; PackageVersion: Nov-1997; PackageReference: J65; Publisher: Altium Limited; PackageDescription: PLCC; 32 Leads; Body 11.4 x 14 mm; Pitch 1.27 mm; Code_JEDEC: MS-016-AE; Code_IPC: PLCC/R-32; ComponentLink1Description: Manufacturer Link; ComponentLink1URL: http://www.cypress.com/; ComponentLink2Description: Datasheet; ComponentLink2URL: http://www.cypress.com/portal/server.pt/gateway/PTARGS_0_2_1524_209_259_43/http%3B/sjapp20.mis.cypress.com%3B7001/publishedcontent/publish/design_resources/datasheets/contents/cy7c419_5.pdf
footprint J65 (PLCC; 32 Leads; Body 11.4 x 14 mm; Pitch 1.27 mm)
3D model CY7C419-J65 (PLCC; 32 Leads; Body 11.4 x 14 mm; Pitch 1.27 mm)
pins: 1 NC, 2 ~{W} (in), 3 D8 (in), 4 D3 (in), 5 D2 (in), 6 D1 (in), 7 D0 (in), 8 ~{XI} (in), 9 ~{FF} (out), 10 Q0 (out), 11 Q1 (out), 12 NC, 13 Q2 (out), 14 Q3 (out), 15 Q8 (out), 16 GND (power), 17 NC, 18 ~{R} (in), 19 Q4 (out), 20 Q5 (out), 21 Q6 (out), 22 Q7 (out), 23 ~{XO}/~{HF} (out), 24 ~{EF} (out), 25 ~{MR} (in), 26 ~{FL}/~{RT} (in), 27 NC, 28 D7 (in), 29 D6 (in), 30 D5 (in), 31 D4 (in), 32 VCC (power)

## CY7C419-40AC
designator U?
256 x 9 Asynchronous First-In First-Out; Published: 11-Dec-2002; LatestRevisionDate: 13-Apr-2006; LatestRevisionNote: IPC-7351 Footprint Added.; DatasheetVersion: 4-Nov-1997; PackageVersion: Nov-1997; PackageReference: A32; Publisher: Altium Limited; PackageDescription: 32-Pin Thin Plastic Quad Flat Pack 0.8 mm Pitch; ComponentLink1Description: Manufacturer Link; ComponentLink1URL: http://www.cypress.com/; ComponentLink2Description: Datasheet; ComponentLink2URL: http://www.cypress.com/portal/server.pt/gateway/PTARGS_0_2_1524_209_259_43/http%3B/sjapp20.mis.cypress.com%3B7001/publishedcontent/publish/design_resources/datasheets/contents/cy7c419_5.pdf
footprint A32_N (Thin QFP, 32-Leads, Body 7x7mm, Pitch 0.8mm, IPC Medium Density)
footprint A32_L (Thin QFP, 32-Leads, Body 7x7mm, Pitch 0.8mm, IPC High Density)
footprint A32_M (Thin QFP, 32-Leads, Body 7x7mm, Pitch 0.8mm, IPC Low Density)
3D model CY7C419-A32 (32-Pin Thin Plastic Quad Flat Pack 0.8 mm Pitch)
pins: 1 D1 (in), 2 D0 (in), 3 NC, 4 NC, 5 ~{XI} (in), 6 ~{FF} (out), 7 Q0 (out), 8 Q1 (out), 9 Q2 (out), 10 Q3 (out), 11 Q8 (out), 12 GND (power), 13 ~{R} (in), 14 Q4 (out), 15 Q5 (out), 16 Q6 (out), 17 Q7 (out), 18 ~{XO}/~{HF} (out), 19 ~{EF} (out), 20 ~{MR} (in), 21 NC, 22 NC, 23 ~{FL}/~{RT} (in), 24 D7 (in), 25 D6 (in), 26 D5 (in), 27 D4 (in), 28 VCC (power), 29 ~{W} (in), 30 D8 (in), 31 D3 (in), 32 D2 (in)

## CY7C419-40JC
designator U?
256 x 9 Asynchronous First-In First-Out; Published: 11-Dec-2002; LatestRevisionDate: 04-Mar-2005; LatestRevisionNote: Stylized 3D Model Added.; DatasheetVersion: 4-Nov-1997; PackageVersion: Nov-1997; PackageReference: J65; Publisher: Altium Limited; PackageDescription: PLCC; 32 Leads; Body 11.4 x 14 mm; Pitch 1.27 mm; Code_JEDEC: MS-016-AE; Code_IPC: PLCC/R-32; ComponentLink1Description: Manufacturer Link; ComponentLink1URL: http://www.cypress.com/; ComponentLink2Description: Datasheet; ComponentLink2URL: http://www.cypress.com/portal/server.pt/gateway/PTARGS_0_2_1524_209_259_43/http%3B/sjapp20.mis.cypress.com%3B7001/publishedcontent/publish/design_resources/datasheets/contents/cy7c419_5.pdf
footprint J65 (PLCC; 32 Leads; Body 11.4 x 14 mm; Pitch 1.27 mm)
3D model CY7C419-J65 (PLCC; 32 Leads; Body 11.4 x 14 mm; Pitch 1.27 mm)
pins: 1 NC, 2 ~{W} (in), 3 D8 (in), 4 D3 (in), 5 D2 (in), 6 D1 (in), 7 D0 (in), 8 ~{XI} (in), 9 ~{FF} (out), 10 Q0 (out), 11 Q1 (out), 12 NC, 13 Q2 (out), 14 Q3 (out), 15 Q8 (out), 16 GND (power), 17 NC, 18 ~{R} (in), 19 Q4 (out), 20 Q5 (out), 21 Q6 (out), 22 Q7 (out), 23 ~{XO}/~{HF} (out), 24 ~{EF} (out), 25 ~{MR} (in), 26 ~{FL}/~{RT} (in), 27 NC, 28 D7 (in), 29 D6 (in), 30 D5 (in), 31 D4 (in), 32 VCC (power)

## CY7C420-25PC
designator U?
512 x 9 Asynchronous First-In First-Out; Published: 11-Dec-2002; LatestRevisionDate: 04-Mar-2005; LatestRevisionNote: Stylized 3D Model Added.; DatasheetVersion: 4-Nov-1997; PackageVersion: Nov-1997; PackageReference: P15; Publisher: Altium Limited; PackageDescription: DIP, Molded; 28 Leads; Row Spacing 15.24 mm; Pitch 2.54 mm; ComponentLink1Description: Manufacturer Link; ComponentLink1URL: http://www.cypress.com/; ComponentLink2Description: Datasheet; ComponentLink2URL: http://www.cypress.com/portal/server.pt/gateway/PTARGS_0_2_1524_209_259_43/http%3B/sjapp20.mis.cypress.com%3B7001/publishedcontent/publish/design_resources/datasheets/contents/cy7c419_5.pdf
footprint P15 (DIP, Molded; 28 Leads; Row Spacing 15.24 mm; Pitch 2.54 mm)
3D model P15 (DIP, Molded; 28 Leads; Row Spacing 15.24 mm; Pitch 2.54 mm)
pins: 1 ~{W} (in), 2 D8 (in), 3 D3 (in), 4 D2 (in), 5 D1 (in), 6 D0 (in), 7 ~{XI} (in), 8 ~{FF} (out), 9 Q0 (out), 10 Q1 (out), 11 Q2 (out), 12 Q3 (out), 13 Q8 (out), 14 GND (power), 15 ~{R} (in), 16 Q4 (out), 17 Q5 (out), 18 Q6 (out), 19 Q7 (out), 20 ~{XO}/~{HF} (out), 21 ~{EF} (out), 22 ~{MR} (in), 23 ~{FL}/~{RT} (in), 24 D7 (in), 25 D6 (in), 26 D5 (in), 27 D4 (in), 28 VCC (power)

## CY7C420-40PC
designator U?
512 x 9 Asynchronous First-In First-Out; Published: 11-Dec-2002; LatestRevisionDate: 04-Mar-2005; LatestRevisionNote: Stylized 3D Model Added.; DatasheetVersion: 4-Nov-1997; PackageVersion: Nov-1997; PackageReference: P15; Publisher: Altium Limited; PackageDescription: DIP, Molded; 28 Leads; Row Spacing 15.24 mm; Pitch 2.54 mm; ComponentLink1Description: Manufacturer Link; ComponentLink1URL: http://www.cypress.com/; ComponentLink2Description: Datasheet; ComponentLink2URL: http://www.cypress.com/portal/server.pt/gateway/PTARGS_0_2_1524_209_259_43/http%3B/sjapp20.mis.cypress.com%3B7001/publishedcontent/publish/design_resources/datasheets/contents/cy7c419_5.pdf
footprint P15 (DIP, Molded; 28 Leads; Row Spacing 15.24 mm; Pitch 2.54 mm)
3D model P15 (DIP, Molded; 28 Leads; Row Spacing 15.24 mm; Pitch 2.54 mm)
pins: 1 ~{W} (in), 2 D8 (in), 3 D3 (in), 4 D2 (in), 5 D1 (in), 6 D0 (in), 7 ~{XI} (in), 8 ~{FF} (out), 9 Q0 (out), 10 Q1 (out), 11 Q2 (out), 12 Q3 (out), 13 Q8 (out), 14 GND (power), 15 ~{R} (in), 16 Q4 (out), 17 Q5 (out), 18 Q6 (out), 19 Q7 (out), 20 ~{XO}/~{HF} (out), 21 ~{EF} (out), 22 ~{MR} (in), 23 ~{FL}/~{RT} (in), 24 D7 (in), 25 D6 (in), 26 D5 (in), 27 D4 (in), 28 VCC (power)

## CY7C420-65PC
designator U?
512 x 9 Asynchronous First-In First-Out; Published: 11-Dec-2002; LatestRevisionDate: 04-Mar-2005; LatestRevisionNote: Stylized 3D Model Added.; DatasheetVersion: 4-Nov-1997; PackageVersion: Nov-1997; PackageReference: P15; Publisher: Altium Limited; PackageDescription: DIP, Molded; 28 Leads; Row Spacing 15.24 mm; Pitch 2.54 mm; ComponentLink1Description: Manufacturer Link; ComponentLink1URL: http://www.cypress.com/; ComponentLink2Description: Datasheet; ComponentLink2URL: http://www.cypress.com/portal/server.pt/gateway/PTARGS_0_2_1524_209_259_43/http%3B/sjapp20.mis.cypress.com%3B7001/publishedcontent/publish/design_resources/datasheets/contents/cy7c419_5.pdf
footprint P15 (DIP, Molded; 28 Leads; Row Spacing 15.24 mm; Pitch 2.54 mm)
3D model P15 (DIP, Molded; 28 Leads; Row Spacing 15.24 mm; Pitch 2.54 mm)
pins: 1 ~{W} (in), 2 D8 (in), 3 D3 (in), 4 D2 (in), 5 D1 (in), 6 D0 (in), 7 ~{XI} (in), 8 ~{FF} (out), 9 Q0 (out), 10 Q1 (out), 11 Q2 (out), 12 Q3 (out), 13 Q8 (out), 14 GND (power), 15 ~{R} (in), 16 Q4 (out), 17 Q5 (out), 18 Q6 (out), 19 Q7 (out), 20 ~{XO}/~{HF} (out), 21 ~{EF} (out), 22 ~{MR} (in), 23 ~{FL}/~{RT} (in), 24 D7 (in), 25 D6 (in), 26 D5 (in), 27 D4 (in), 28 VCC (power)

## CY7C421-10AC
designator U?
512 x 9 Asynchronous First-In First-Out; Published: 11-Dec-2002; LatestRevisionDate: 13-Apr-2006; LatestRevisionNote: IPC-7351 Footprint Added.; DatasheetVersion: 4-Nov-1997; PackageVersion: Nov-1997; PackageReference: A32; Publisher: Altium Limited; PackageDescription: 32-Pin Thin Plastic Quad Flat Pack 0.8 mm Pitch; ComponentLink1Description: Manufacturer Link; ComponentLink1URL: http://www.cypress.com/; ComponentLink2Description: Datasheet; ComponentLink2URL: http://www.cypress.com/portal/server.pt/gateway/PTARGS_0_2_1524_209_259_43/http%3B/sjapp20.mis.cypress.com%3B7001/publishedcontent/publish/design_resources/datasheets/contents/cy7c419_5.pdf
footprint A32_N (Thin QFP, 32-Leads, Body 7x7mm, Pitch 0.8mm, IPC Medium Density)
footprint A32_L (Thin QFP, 32-Leads, Body 7x7mm, Pitch 0.8mm, IPC High Density)
footprint A32_M (Thin QFP, 32-Leads, Body 7x7mm, Pitch 0.8mm, IPC Low Density)
3D model CY7C421-A32 (32-Pin Thin Plastic Quad Flat Pack 0.8 mm Pitch)
pins: 1 D1 (in), 2 D0 (in), 3 NC, 4 NC, 5 ~{XI} (in), 6 ~{FF} (out), 7 Q0 (out), 8 Q1 (out), 9 Q2 (out), 10 Q3 (out), 11 Q8 (out), 12 GND (power), 13 ~{R} (in), 14 Q4 (out), 15 Q5 (out), 16 Q6 (out), 17 Q7 (out), 18 ~{XO}/~{HF} (out), 19 ~{EF} (out), 20 ~{MR} (in), 21 NC, 22 NC, 23 ~{FL}/~{RT} (in), 24 D7 (in), 25 D6 (in), 26 D5 (in), 27 D4 (in), 28 VCC (power), 29 ~{W} (in), 30 D8 (in), 31 D3 (in), 32 D2 (in)

## CY7C421-10JC
designator U?
512 x 9 Asynchronous First-In First-Out; Published: 11-Dec-2002; LatestRevisionDate: 04-Mar-2005; LatestRevisionNote: Stylized 3D Model Added.; DatasheetVersion: 4-Nov-1997; PackageVersion: Nov-1997; PackageReference: J65; Publisher: Altium Limited; PackageDescription: PLCC; 32 Leads; Body 11.4 x 14 mm; Pitch 1.27 mm; Code_JEDEC: MS-016-AE; Code_IPC: PLCC/R-32; ComponentLink1Description: Manufacturer Link; ComponentLink1URL: http://www.cypress.com/; ComponentLink2Description: Datasheet; ComponentLink2URL: http://www.cypress.com/portal/server.pt/gateway/PTARGS_0_2_1524_209_259_43/http%3B/sjapp20.mis.cypress.com%3B7001/publishedcontent/publish/design_resources/datasheets/contents/cy7c419_5.pdf
footprint J65 (PLCC; 32 Leads; Body 11.4 x 14 mm; Pitch 1.27 mm)
3D model CY7C421-J65 (PLCC; 32 Leads; Body 11.4 x 14 mm; Pitch 1.27 mm)
pins: 1 NC, 2 ~{W} (in), 3 D8 (in), 4 D3 (in), 5 D2 (in), 6 D1 (in), 7 D0 (in), 8 ~{XI} (in), 9 ~{FF} (out), 10 Q0 (out), 11 Q1 (out), 12 NC, 13 Q2 (out), 14 Q3 (out), 15 Q8 (out), 16 GND (power), 17 NC, 18 ~{R} (in), 19 Q4 (out), 20 Q5 (out), 21 Q6 (out), 22 Q7 (out), 23 ~{XO}/~{HF} (out), 24 ~{EF} (out), 25 ~{MR} (in), 26 ~{FL}/~{RT} (in), 27 NC, 28 D7 (in), 29 D6 (in), 30 D5 (in), 31 D4 (in), 32 VCC (power)

## CY7C421-10PC
designator U?
512 x 9 Asynchronous First-In First-Out; Published: 11-Dec-2002; LatestRevisionDate: 04-Mar-2005; LatestRevisionNote: Stylized 3D Model Added.; DatasheetVersion: 4-Nov-1997; PackageVersion: Jul-2000; PackageReference: P21; Publisher: Altium Limited; PackageDescription: DIP, Molded; 28 Leads; Row Spacing 7.62 mm; Pitch 2.54 mm; ComponentLink1Description: Manufacturer Link; ComponentLink1URL: http://www.cypress.com/; ComponentLink2Description: Datasheet; ComponentLink2URL: http://www.cypress.com/portal/server.pt/gateway/PTARGS_0_2_1524_209_259_43/http%3B/sjapp20.mis.cypress.com%3B7001/publishedcontent/publish/design_resources/datasheets/contents/cy7c419_5.pdf
footprint P21 (DIP, Molded; 28 Leads; Row Spacing 7.62 mm; Pitch 2.54 mm)
3D model P21 (DIP, Molded; 28 Leads; Row Spacing 7.62 mm; Pitch 2.54 mm)
pins: 1 ~{W} (in), 2 D8 (in), 3 D3 (in), 4 D2 (in), 5 D1 (in), 6 D0 (in), 7 ~{XI} (in), 8 ~{FF} (out), 9 Q0 (out), 10 Q1 (out), 11 Q2 (out), 12 Q3 (out), 13 Q8 (out), 14 GND (power), 15 ~{R} (in), 16 Q4 (out), 17 Q5 (out), 18 Q6 (out), 19 Q7 (out), 20 ~{XO}/~{HF} (out), 21 ~{EF} (out), 22 ~{MR} (in), 23 ~{FL}/~{RT} (in), 24 D7 (in), 25 D6 (in), 26 D5 (in), 27 D4 (in), 28 VCC (power)

## CY7C421-10VC
designator U?
512 x 9 Asynchronous First-In First-Out; Published: 11-Dec-2002; LatestRevisionDate: 04-Mar-2005; LatestRevisionNote: Stylized 3D Model Added.; DatasheetVersion: 4-Nov-1997; PackageVersion: Jul-1994; PackageReference: V21; Publisher: Altium Limited; PackageDescription: SOJ, Molded; 28 Leads; Body Width 7.5 mm; ComponentLink1Description: Manufacturer Link; ComponentLink1URL: http://www.cypress.com/; ComponentLink2Description: Datasheet; ComponentLink2URL: http://www.cypress.com/portal/server.pt/gateway/PTARGS_0_2_1524_209_259_43/http%3B/sjapp20.mis.cypress.com%3B7001/publishedcontent/publish/design_resources/datasheets/contents/cy7c419_5.pdf
footprint V21 (SOJ, Molded; 28 Leads; Body Width 7.5 mm)
3D model V21 (SOJ, Molded; 28 Leads; Body Width 7.5 mm)
pins: 1 ~{W} (in), 2 D8 (in), 3 D3 (in), 4 D2 (in), 5 D1 (in), 6 D0 (in), 7 ~{XI} (in), 8 ~{FF} (out), 9 Q0 (out), 10 Q1 (out), 11 Q2 (out), 12 Q3 (out), 13 Q8 (out), 14 GND (power), 15 ~{R} (in), 16 Q4 (out), 17 Q5 (out), 18 Q6 (out), 19 Q7 (out), 20 ~{XO}/~{HF} (out), 21 ~{EF} (out), 22 ~{MR} (in), 23 ~{FL}/~{RT} (in), 24 D7 (in), 25 D6 (in), 26 D5 (in), 27 D4 (in), 28 VCC (power)

## CY7C421-15AC
designator U?
512 x 9 Asynchronous First-In First-Out; Published: 11-Dec-2002; LatestRevisionDate: 13-Apr-2006; LatestRevisionNote: IPC-7351 Footprint Added.; DatasheetVersion: 4-Nov-1997; PackageVersion: Nov-1997; PackageReference: A32; Publisher: Altium Limited; PackageDescription: 32-Pin Thin Plastic Quad Flat Pack 0.8 mm Pitch; ComponentLink1Description: Manufacturer Link; ComponentLink1URL: http://www.cypress.com/; ComponentLink2Description: Datasheet; ComponentLink2URL: http://www.cypress.com/portal/server.pt/gateway/PTARGS_0_2_1524_209_259_43/http%3B/sjapp20.mis.cypress.com%3B7001/publishedcontent/publish/design_resources/datasheets/contents/cy7c419_5.pdf
footprint A32_N (Thin QFP, 32-Leads, Body 7x7mm, Pitch 0.8mm, IPC Medium Density)
footprint A32_L (Thin QFP, 32-Leads, Body 7x7mm, Pitch 0.8mm, IPC High Density)
footprint A32_M (Thin QFP, 32-Leads, Body 7x7mm, Pitch 0.8mm, IPC Low Density)
3D model CY7C421-A32 (32-Pin Thin Plastic Quad Flat Pack 0.8 mm Pitch)
pins: 1 D1 (in), 2 D0 (in), 3 NC, 4 NC, 5 ~{XI} (in), 6 ~{FF} (out), 7 Q0 (out), 8 Q1 (out), 9 Q2 (out), 10 Q3 (out), 11 Q8 (out), 12 GND (power), 13 ~{R} (in), 14 Q4 (out), 15 Q5 (out), 16 Q6 (out), 17 Q7 (out), 18 ~{XO}/~{HF} (out), 19 ~{EF} (out), 20 ~{MR} (in), 21 NC, 22 NC, 23 ~{FL}/~{RT} (in), 24 D7 (in), 25 D6 (in), 26 D5 (in), 27 D4 (in), 28 VCC (power), 29 ~{W} (in), 30 D8 (in), 31 D3 (in), 32 D2 (in)

## CY7C421-15DMB
designator U?
512 x 9 Asynchronous First-In First-Out; Published: 11-Dec-2002; LatestRevisionDate: 04-Mar-2005; LatestRevisionNote: Stylized 3D Model Added.; DatasheetVersion: 4-Nov-1997; PackageVersion: Mar-1997; PackageReference: D22; Publisher: Altium Limited; PackageDescription: CerDIP; 28 Leads; Row Spacing 7.62 mm; Pitch 2.54 mm; ComponentLink1Description: Manufacturer Link; ComponentLink1URL: http://www.cypress.com/; ComponentLink2Description: Datasheet; ComponentLink2URL: http://www.cypress.com/portal/server.pt/gateway/PTARGS_0_2_1524_209_259_43/http%3B/sjapp20.mis.cypress.com%3B7001/publishedcontent/publish/design_resources/datasheets/contents/cy7c419_5.pdf
footprint D22 (CerDIP; 28 Leads; Row Spacing 7.62 mm; Pitch 2.54 mm)
3D model D22 (CerDIP; 28 Leads; Row Spacing 7.62 mm; Pitch 2.54 mm)
pins: 1 ~{W} (in), 2 D8 (in), 3 D3 (in), 4 D2 (in), 5 D1 (in), 6 D0 (in), 7 ~{XI} (in), 8 ~{FF} (out), 9 Q0 (out), 10 Q1 (out), 11 Q2 (out), 12 Q3 (out), 13 Q8 (out), 14 GND (power), 15 ~{R} (in), 16 Q4 (out), 17 Q5 (out), 18 Q6 (out), 19 Q7 (out), 20 ~{XO}/~{HF} (out), 21 ~{EF} (out), 22 ~{MR} (in), 23 ~{FL}/~{RT} (in), 24 D7 (in), 25 D6 (in), 26 D5 (in), 27 D4 (in), 28 VCC (power)

## CY7C421-15JC
designator U?
512 x 9 Asynchronous First-In First-Out; Published: 11-Dec-2002; LatestRevisionDate: 04-Mar-2005; LatestRevisionNote: Stylized 3D Model Added.; DatasheetVersion: 4-Nov-1997; PackageVersion: Nov-1997; PackageReference: J65; Publisher: Altium Limited; PackageDescription: PLCC; 32 Leads; Body 11.4 x 14 mm; Pitch 1.27 mm; Code_JEDEC: MS-016-AE; Code_IPC: PLCC/R-32; ComponentLink1Description: Manufacturer Link; ComponentLink1URL: http://www.cypress.com/; ComponentLink2Description: Datasheet; ComponentLink2URL: http://www.cypress.com/portal/server.pt/gateway/PTARGS_0_2_1524_209_259_43/http%3B/sjapp20.mis.cypress.com%3B7001/publishedcontent/publish/design_resources/datasheets/contents/cy7c419_5.pdf
footprint J65 (PLCC; 32 Leads; Body 11.4 x 14 mm; Pitch 1.27 mm)
3D model CY7C421-J65 (PLCC; 32 Leads; Body 11.4 x 14 mm; Pitch 1.27 mm)
pins: 1 NC, 2 ~{W} (in), 3 D8 (in), 4 D3 (in), 5 D2 (in), 6 D1 (in), 7 D0 (in), 8 ~{XI} (in), 9 ~{FF} (out), 10 Q0 (out), 11 Q1 (out), 12 NC, 13 Q2 (out), 14 Q3 (out), 15 Q8 (out), 16 GND (power), 17 NC, 18 ~{R} (in), 19 Q4 (out), 20 Q5 (out), 21 Q6 (out), 22 Q7 (out), 23 ~{XO}/~{HF} (out), 24 ~{EF} (out), 25 ~{MR} (in), 26 ~{FL}/~{RT} (in), 27 NC, 28 D7 (in), 29 D6 (in), 30 D5 (in), 31 D4 (in), 32 VCC (power)

## CY7C421-15JI
designator U?
512 x 9 Asynchronous First-In First-Out; Published: 11-Dec-2002; LatestRevisionDate: 04-Mar-2005; LatestRevisionNote: Stylized 3D Model Added.; DatasheetVersion: 4-Nov-1997; PackageVersion: Nov-1997; PackageReference: J65; Publisher: Altium Limited; PackageDescription: PLCC; 32 Leads; Body 11.4 x 14 mm; Pitch 1.27 mm; Code_JEDEC: MS-016-AE; Code_IPC: PLCC/R-32; ComponentLink1Description: Manufacturer Link; ComponentLink1URL: http://www.cypress.com/; ComponentLink2Description: Datasheet; ComponentLink2URL: http://www.cypress.com/portal/server.pt/gateway/PTARGS_0_2_1524_209_259_43/http%3B/sjapp20.mis.cypress.com%3B7001/publishedcontent/publish/design_resources/datasheets/contents/cy7c419_5.pdf
footprint J65 (PLCC; 32 Leads; Body 11.4 x 14 mm; Pitch 1.27 mm)
3D model CY7C421-J65 (PLCC; 32 Leads; Body 11.4 x 14 mm; Pitch 1.27 mm)
pins: 1 NC, 2 ~{W} (in), 3 D8 (in), 4 D3 (in), 5 D2 (in), 6 D1 (in), 7 D0 (in), 8 ~{XI} (in), 9 ~{FF} (out), 10 Q0 (out), 11 Q1 (out), 12 NC, 13 Q2 (out), 14 Q3 (out), 15 Q8 (out), 16 GND (power), 17 NC, 18 ~{R} (in), 19 Q4 (out), 20 Q5 (out), 21 Q6 (out), 22 Q7 (out), 23 ~{XO}/~{HF} (out), 24 ~{EF} (out), 25 ~{MR} (in), 26 ~{FL}/~{RT} (in), 27 NC, 28 D7 (in), 29 D6 (in), 30 D5 (in), 31 D4 (in), 32 VCC (power)

## CY7C421-15LMB
designator U?
512 x 9 Asynchronous First-In First-Out; Published: 11-Dec-2002; DatasheetVersion: 4-Nov-1997; PackageVersion: Nov-1997; PackageReference: L55; Publisher: Altium Limited; PackageDescription: Leadless Chip Carrier; 32 Terminals; Body 11.4 x 14 mm; ComponentLink1Description: Manufacturer Link; ComponentLink1URL: http://www.cypress.com/; ComponentLink2Description: Datasheet; ComponentLink2URL: http://www.cypress.com/portal/server.pt/gateway/PTARGS_0_2_1524_209_259_43/http%3B/sjapp20.mis.cypress.com%3B7001/publishedcontent/publish/design_resources/datasheets/contents/cy7c419_5.pdf
footprint L55 (Leadless Chip Carrier; 32 Terminals; Body 11.4 x 14 mm)
pins: 1 NC, 2 ~{W} (in), 3 D8 (in), 4 D3 (in), 5 D2 (in), 6 D1 (in), 7 D0 (in), 8 ~{XI} (in), 9 ~{FF} (out), 10 Q0 (out), 11 Q1 (out), 12 NC, 13 Q2 (out), 14 Q3 (out), 15 Q8 (out), 16 GND (power), 17 NC, 18 ~{R} (in), 19 Q4 (out), 20 Q5 (out), 21 Q6 (out), 22 Q7 (out), 23 ~{XO}/~{HF} (out), 24 ~{EF} (out), 25 ~{MR} (in), 26 ~{FL}/~{RT} (in), 27 NC, 28 D7 (in), 29 D6 (in), 30 D5 (in), 31 D4 (in), 32 VCC (power)

## CY7C421-15VI
designator U?
512 x 9 Asynchronous First-In First-Out; Published: 11-Dec-2002; LatestRevisionDate: 04-Mar-2005; LatestRevisionNote: Stylized 3D Model Added.; DatasheetVersion: 4-Nov-1997; PackageVersion: Jul-1994; PackageReference: V21; Publisher: Altium Limited; PackageDescription: SOJ, Molded; 28 Leads; Body Width 7.5 mm; ComponentLink1Description: Manufacturer Link; ComponentLink1URL: http://www.cypress.com/; ComponentLink2Description: Datasheet; ComponentLink2URL: http://www.cypress.com/portal/server.pt/gateway/PTARGS_0_2_1524_209_259_43/http%3B/sjapp20.mis.cypress.com%3B7001/publishedcontent/publish/design_resources/datasheets/contents/cy7c419_5.pdf
footprint V21 (SOJ, Molded; 28 Leads; Body Width 7.5 mm)
3D model V21 (SOJ, Molded; 28 Leads; Body Width 7.5 mm)
pins: 1 ~{W} (in), 2 D8 (in), 3 D3 (in), 4 D2 (in), 5 D1 (in), 6 D0 (in), 7 ~{XI} (in), 8 ~{FF} (out), 9 Q0 (out), 10 Q1 (out), 11 Q2 (out), 12 Q3 (out), 13 Q8 (out), 14 GND (power), 15 ~{R} (in), 16 Q4 (out), 17 Q5 (out), 18 Q6 (out), 19 Q7 (out), 20 ~{XO}/~{HF} (out), 21 ~{EF} (out), 22 ~{MR} (in), 23 ~{FL}/~{RT} (in), 24 D7 (in), 25 D6 (in), 26 D5 (in), 27 D4 (in), 28 VCC (power)